# Altium footprint library RT424012.PcbLib: 1 footprints
Each footprint in its own frame and in the unit in brackets; x right, y up, seen from the top. Pads: shape width x height; smd on the part's side, far side on the other; paste and mask are expansions set on the pad; w line width, h text height; cw(c..) or ccw(c..) is an arc to the next point about the centre after c.
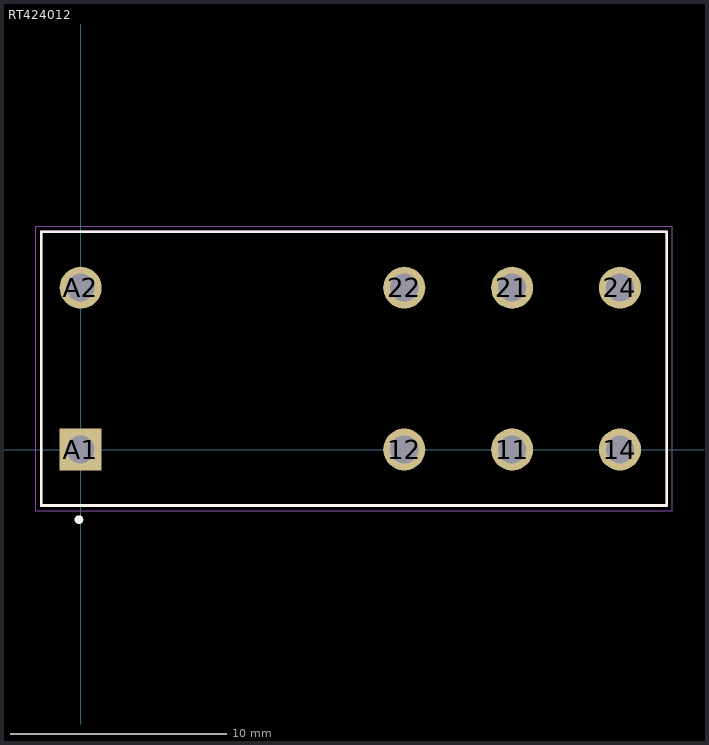
[diagram p0: the footprint, top view; thin cyan lines are the x and y axes]

## RT424012 [mm]
pads (8):
  round 1.95 hole 1.3: 11(20,0) 12(15,0) 14(25,0) 21(20,7.5) 22(15,7.5) 24(25,7.5) A2(0,7.5)
  rect 1.95x1.95 hole 1.3: A1(0,0)
Top Overlay:
  circle w0.2: c-0.08,-3.25 r0.1
  lines w0.127: -1.83,-2.6 27.17,-2.6 27.17,10.1 -1.83,10.1 -1.83,-2.6
Top Courtyard:
  lines w0.05: -2.08,-2.85 -2.08,10.35 27.42,10.35 27.42,-2.85 -2.08,-2.85
Mechanical 13:
  lines w0.127: -1.83,-2.6 27.17,-2.6 27.17,10.1 -1.83,10.1 -1.83,-2.6
3D body "User Library-RT2.step": height 15.71, standoff -3.6, extent -1.8,-2.6 27.2,10.1